# EAGLE library part LMZ22005 (library Alpha-Power)
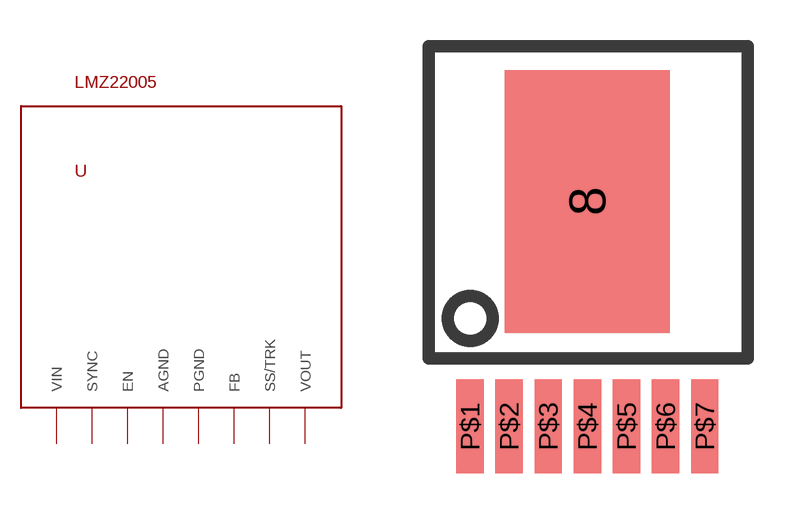
[diagram p0: symbol with the pads of NDW; footprint NDW]

Designator prefix U

## LMZ22005 (OC_FARNELL: 1890060)  [NDW]
8  PGND  pwr
P$1  VIN  pwr
P$2  SYNC  in
P$3  EN  in
P$4  AGND  pwr
P$5  FB  in
P$6  SS/TRK  in
P$7  VOUT  pwr

## Footprint NDW (pad centres in mm)
smd 5.35 x 8.54: 8 0,0.955
smd 0.89 x 3.06: P$1 -3.81,-6.35; P$2 -2.54,-6.35; P$3 -1.27,-6.35; P$4 0,-6.35; P$5 1.27,-6.35; P$6 2.54,-6.35; P$7 3.81,-6.35